# Altium footprint library ENS160BGLM.PcbLib: 1 footprints
Each footprint in its own frame and in the unit in brackets; x right, y up, seen from the top. Pads: shape width x height; smd on the part's side, far side on the other; paste and mask are expansions set on the pad; w line width, h text height; cw(c..) or ccw(c..) is an arc to the next point about the centre after c.
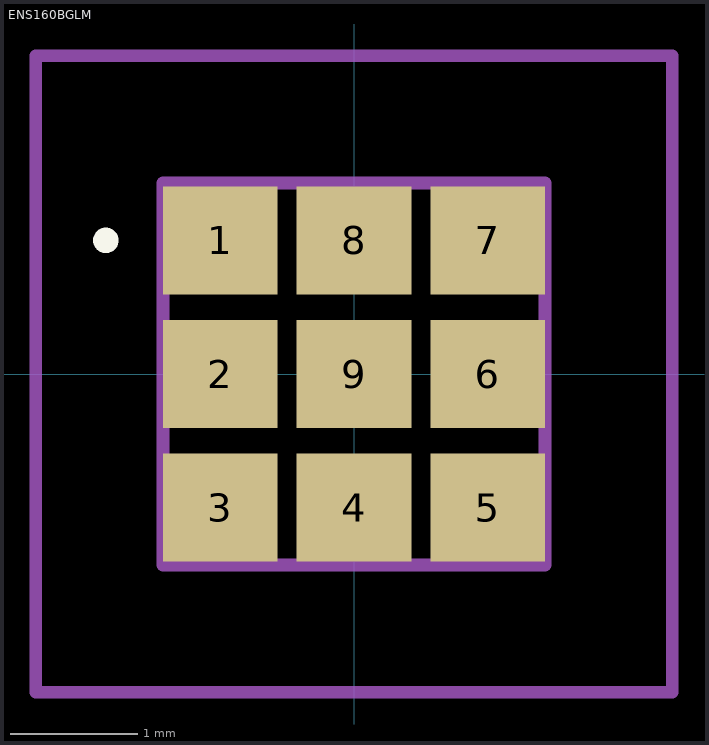
[diagram p0: the footprint, top view; thin cyan lines are the x and y axes]

## ENS160BGLM [mm]
pads (9):
  rect 0.9x0.85 smd: 1(-1.05,1.05) 2(-1.05,0) 3(-1.05,-1.05) 4(0,-1.05) 5(1.05,-1.05) 6(1.05,0) 7(1.05,1.05) 8(0,1.05) 9(0,0)
Top Overlay:
  lines w0.1: -2,1.05 cw(c-1.95,1.05) -1.9,1.05 ; -2,1.05 -2,1.05 ; -2,1.05 ccw(c-1.95,1.05) -1.9,1.05 ; -1.9,1.05 -1.9,1.05
Mechanical 15:
  lines w0.1: -1.5,-1.5 1.5,-1.5 1.5,1.5 -1.5,1.5 -1.5,-1.5
Mechanical 20:
  lines w0.1: -2.5,-2.5 2.5,-2.5 2.5,2.5 -2.5,2.5 -2.5,-2.5